# EAGLE library part ESP32S3DEVB (library MouseLib)
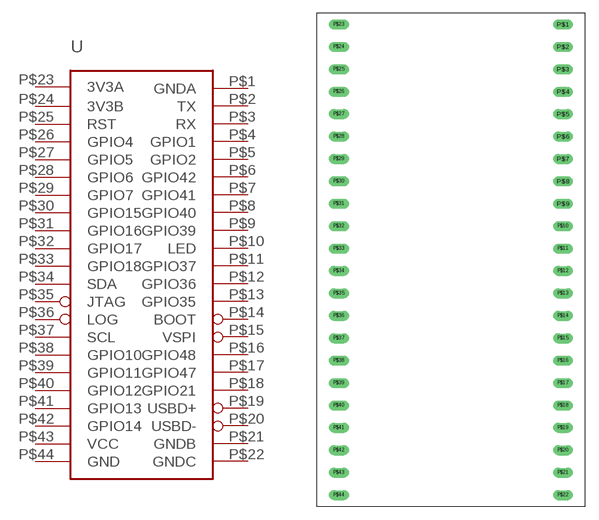
[diagram p9: symbol with the pads of ESP32S3PINS; footprint ESP32S3PINS]

Designator prefix -

## ESP32S3DEVB  [ESP32S3PINS]
P$1  GNDA  pwr
P$2  TX
P$3  RX
P$4  GPIO1
P$5  GPIO2
P$6  GPIO42
P$7  GPIO41
P$8  GPIO40
P$9  GPIO39
P$10  LED
P$11  GPIO37
P$12  GPIO36
P$13  GPIO35
P$14  BOOT
P$15  VSPI
P$16  GPIO48
P$17  GPIO47
P$18  GPIO21
P$19  USBD+
P$20  USBD-  pwr
P$21  GNDB  pwr
P$22  GNDC  pwr
P$23  3V3A  pwr
P$24  3V3B  pwr
P$25  RST
P$26  GPIO4
P$27  GPIO5
P$28  GPIO6
P$29  GPIO7
P$30  GPIO15
P$31  GPIO16
P$32  GPIO17
P$33  GPIO18
P$34  SDA
P$35  JTAG
P$36  LOG
P$37  SCL
P$38  GPIO10
P$39  GPIO11
P$40  GPIO12
P$41  GPIO13
P$42  GPIO14
P$43  VCC  pwr
P$44  GND  pwr

## Footprint ESP32S3PINS (pad centres in mm)
drill 0.65 long: P$1 12.7,26.67; P$2 12.7,24.13; P$3 12.7,21.59; P$4 12.7,19.05; P$5 12.7,16.51; P$6 12.7,13.97; P$7 12.7,11.43; P$8 12.7,8.89; P$9 12.7,6.35; P$10 12.7,3.81; P$11 12.7,1.27; P$12 12.7,-1.27; P$13 12.7,-3.81; P$14 12.7,-6.35; P$15 12.7,-8.89; P$16 12.7,-11.43; P$17 12.7,-13.97; P$18 12.7,-16.51; P$19 12.7,-19.05; P$20 12.7,-21.59; P$21 12.7,-24.13; P$22 12.7,-26.67; P$23 -12.7,26.67; P$24 -12.7,24.13; P$25 -12.7,21.59; P$26 -12.7,19.05; P$27 -12.7,16.51; P$28 -12.7,13.97; P$29 -12.7,11.43; P$30 -12.7,8.89; P$31 -12.7,6.35; P$32 -12.7,3.81; P$33 -12.7,1.27; P$34 -12.7,-1.27; P$35 -12.7,-3.81; P$36 -12.7,-6.35; P$37 -12.7,-8.89; P$38 -12.7,-11.43; P$39 -12.7,-13.97; P$40 -12.7,-16.51; P$41 -12.7,-19.05; P$42 -12.7,-21.59; P$43 -12.7,-24.13; P$44 -12.7,-26.67